# EAGLE library part LZC-00-MA00 (library 1dah)
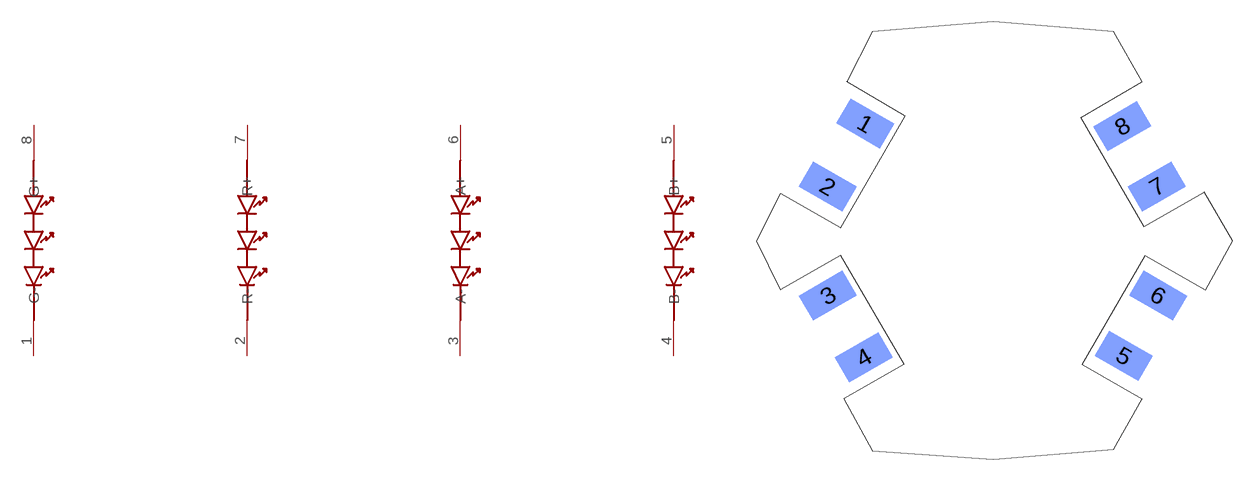
[diagram p42: symbol with the pads of LZC-00MA00; footprint LZC-00MA00]

Designator prefix -

## LZC-00-MA00  [LZC-00MA00]
1  G-
2  R-
3  A-
4  B-
5  B+
6  A+
7  R+
8  G+

## Footprint LZC-00MA00 (pad centres in mm)
smd 2 x 3.5 rotated 60 bottom: 1 -8.9,8.2; 2 -11.5,3.8; 5 9.1,-8; 6 11.5,-3.8
smd 3.5 x 2 rotated 30 bottom: 3 -11.5,-3.8; 4 -9,-8.1; 7 11.4,3.8; 8 9,8